# Altium footprint library MOTHERBOARD.PcbLib: 64 footprints (part 4 of 4)
Each footprint in its own frame and in the unit in brackets; x right, y up, seen from the top. Pads: shape width x height; smd on the part's side, far side on the other; paste and mask are expansions set on the pad; w line width, h text height; cw(c..) or ccw(c..) is an arc to the next point about the centre after c.
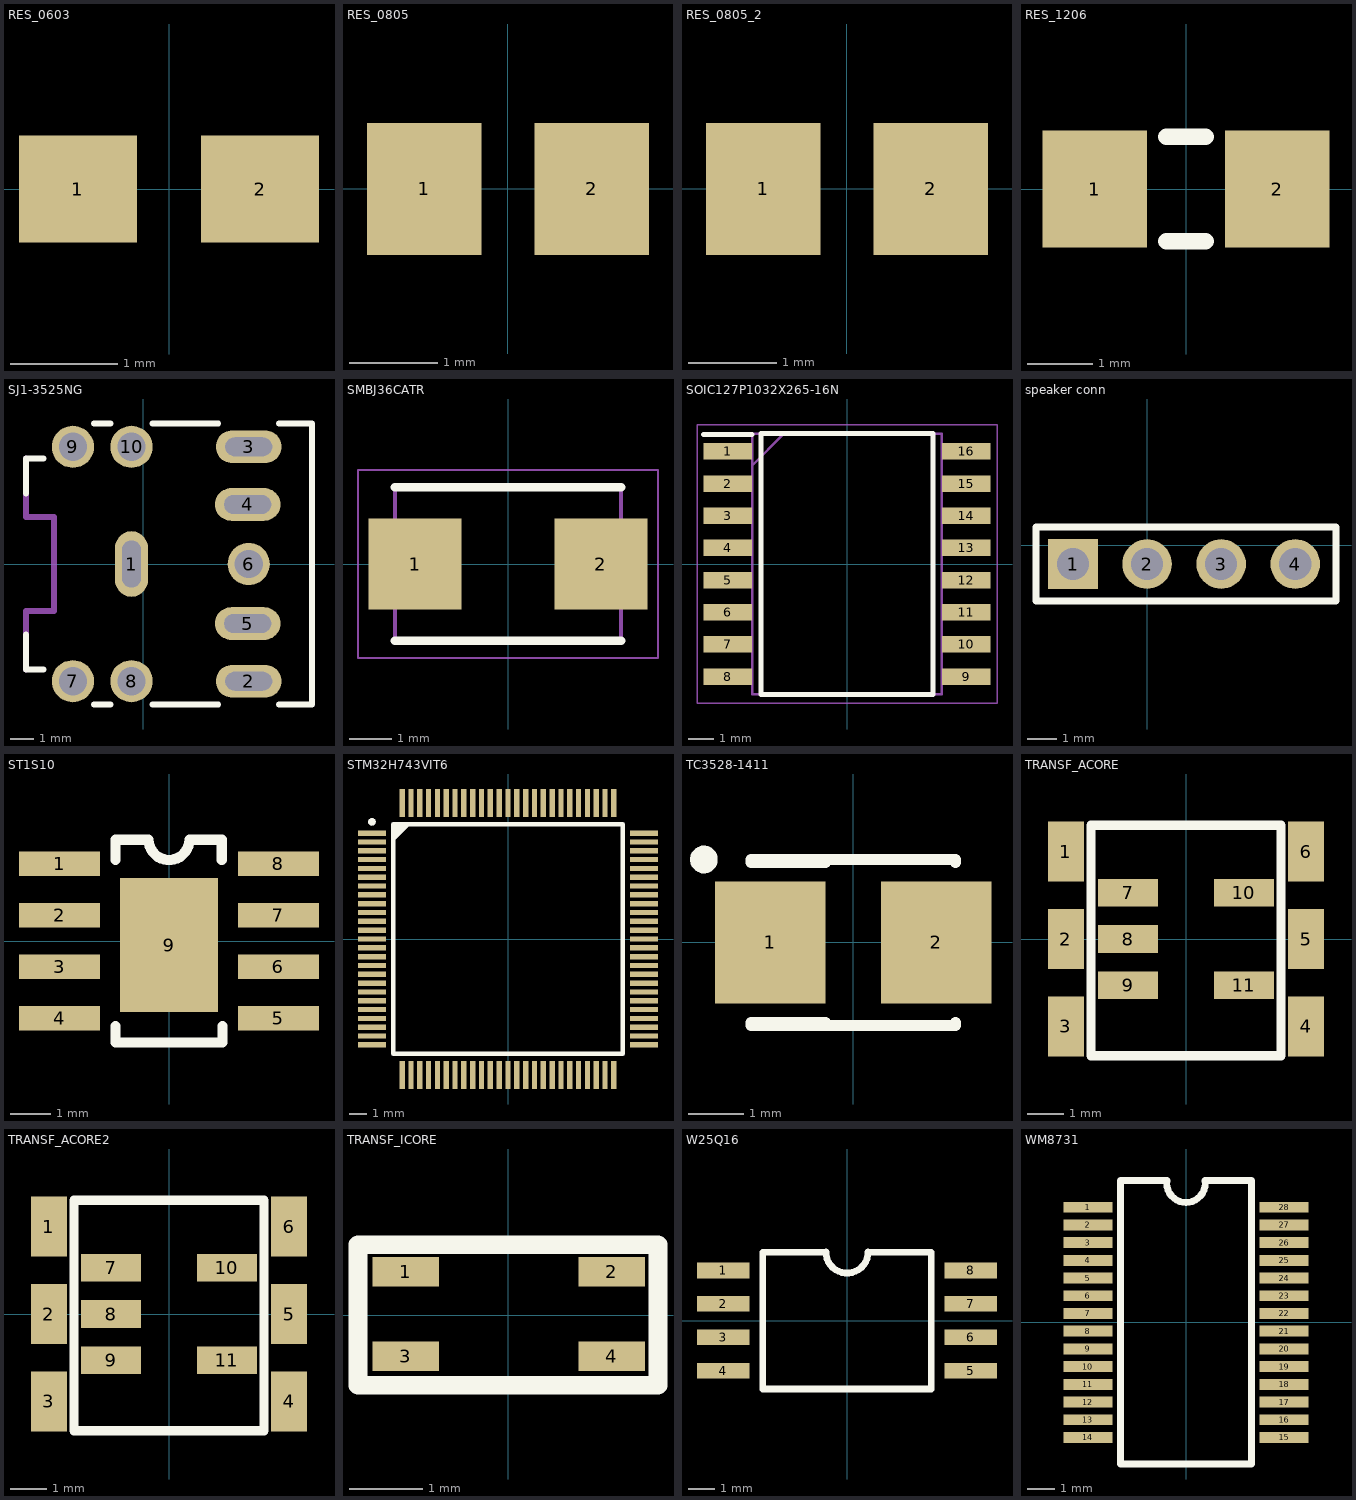
[diagram p3: the footprints below, top view; thin cyan lines are the x and y axes]

## RES_0603 [mm]
pads (2):
  rect 1.1x1 smd: 1(-0.85,0) 2(0.85,0)

## RES_0805 [mm]
pads (2):
  rect 1.3x1.5 smd: 1(-0.95,0) 2(0.95,0)

## RES_0805_2 [mm]
pads (2):
  rect 1.3x1.5 smd: 1(-0.95,0) 2(0.95,0)

## RES_1206 [mm]
pads (2):
  rect 1.6x1.8 smd: 1(-1.4,0) 2(1.4,0)
Top Overlay:
  lines w0.254: -0.299,-0.799 0.299,-0.799 ; -0.299,0.799 0.299,0.799

## SJ1-3525NG [mm]
pads (10):
  oval 1.4x2.8 hole 2 slot 0.8 at 0 deg: 1(-0.511,0)
  oval 2.8x1.4 hole 0.8 slot 2 at 0 deg: 2(4.489,-5) 3(4.489,5) 4(4.445,2.54) 5(4.445,-2.54)
  round 1.8 hole 1.2: 6(4.489,0) 7(-3.011,-5) 8(-0.511,-5) 9(-3.011,5) 10(-0.511,5)
Top Overlay:
  lines w0.254: -5.012,-3 -5.012,-4.5 -4.261,-4.5 ; -5.012,3 -5.012,4.5 -4.261,4.5 ; -2.112,-6 -1.412,-6 ; -2.112,6 -1.412,6 ; 0.388,-6 3.189,-6 ; 0.388,6 3.189,6 ; 5.788,-6 7.188,-6 7.188,6 5.788,6
Mechanical 1:
  lines w0.254: -5.012,-4.5 -5.012,-2 -3.811,-2 -3.811,2 -5.012,2 -5.012,4.5
  text "BOARD" at -6.334,-2.077 h0.42
  text "EDGE" at -7.176,-2.244 h0.42
  text "BOARD" at -6.334,4.423 h0.42
  text "EDGE" at -7.176,4.256 h0.42

## SMBJ36CATR [mm]
pads (2):
  rect 2.2x2.15 smd: 1(-2.2,0) 2(2.2,0)
Top Overlay:
  lines w0.2: -2.675,-1.812 2.675,-1.812 ; -2.675,1.812 2.675,1.812
Mechanical 13:
  lines w0.1: -2.675,-1.812 2.675,-1.812 2.675,1.812 -2.675,1.812 -2.675,-1.812
Mechanical 15:
  lines w0.05: -3.55,-2.225 3.55,-2.225 3.55,2.225 -3.55,2.225 -3.55,-2.225
3D body "SM6T15A.stp": height 2.75, standoff 0, extent -3.085,-1.812 3.085,1.812

## SOIC127P1032X265-16N [mm]
pads (16):
  rect 1.925x0.65 smd: 1(-4.712,4.445) 2(-4.712,3.175) 3(-4.712,1.905) 4(-4.712,0.635) 5(-4.712,-0.635) 6(-4.712,-1.905) 7(-4.712,-3.175) 8(-4.712,-4.445) 9(4.712,-4.445) 10(4.712,-3.175) 11(4.712,-1.905) 12(4.712,-0.635) 13(4.712,0.635) 14(4.712,1.905) 15(4.712,3.175) 16(4.712,4.445)
Top Overlay:
  lines w0.2: -5.675,5.12 -3.75,5.12 ; -3.4,-5.15 3.4,-5.15 3.4,5.15 -3.4,5.15 -3.4,-5.15
Mechanical 13:
  lines w0.1: -3.75,3.88 -2.48,5.15 ; -3.75,-5.15 3.75,-5.15 3.75,5.15 -3.75,5.15 -3.75,-5.15
Mechanical 15:
  lines w0.05: -5.925,-5.5 5.925,-5.5 5.925,5.5 -5.925,5.5 -5.925,-5.5
3D body "ADUM4160BRWZ.stp": height 2.65, standoff 0, extent -5.162,-5.15 5.162,5.15

## speaker conn [mm]
pads (4):
  rect 1.7x1.7 hole 1.1: 1(-2.54,-0.635)
  round 1.7 hole 1.1: 2(0,-0.635) 3(2.54,-0.635) 4(5.08,-0.635)
Top Overlay:
  lines w0.254: -3.809,-1.905 6.477,-1.905 6.477,0.635 -3.809,0.635 -3.809,-1.905

## ST1S10 [mm]
pads (9):
  rect 2x0.6 smd: 1(-2.7,1.905) 2(-2.7,0.635) 3(-2.7,-0.635) 4(-2.7,-1.905) 5(2.7,-1.905) 6(2.7,-0.635) 7(2.7,0.635) 8(2.7,1.905)
  rect 2.41x3.3 smd: 9(0,-0.1)
Top Overlay:
  lines w0.254: -1.317,-2.5 -1.317,-2.1 ; -1.317,2 -1.317,2.5 ; -1.302,-2.5 1.302,-2.5 ; -1.302,2.5 -0.503,2.5 ; -0.503,2.503 ccw(c0,2.503) 0.503,2.503 ; 0.503,2.5 1.302,2.5 1.302,2 ; 1.317,-2.5 1.317,-2.1

## STM32H743VIT6 [mm]
pads (100):
  rect 1.6x0.3 smd: 1(-7.7,6) 2(-7.7,5.5) 3(-7.7,5) 4(-7.7,4.5) 5(-7.7,4) 6(-7.7,3.5) 7(-7.7,3) 8(-7.7,2.5) 9(-7.7,2) 10(-7.7,1.5) 11(-7.7,1) 12(-7.7,0.5) 13(-7.7,0) 14(-7.7,-0.5) 15(-7.7,-1) 16(-7.7,-1.5) 17(-7.7,-2) 18(-7.7,-2.5) 19(-7.7,-3) 20(-7.7,-3.5) 21(-7.7,-4) 22(-7.7,-4.5) 23(-7.7,-5) 24(-7.7,-5.5) 25(-7.7,-6) 51(7.7,-6) 52(7.7,-5.5) 53(7.7,-5) 54(7.7,-4.5) 55(7.7,-4) 56(7.7,-3.5) 57(7.7,-3) 58(7.7,-2.5) 59(7.7,-2) 60(7.7,-1.5) 61(7.7,-1) 62(7.7,-0.5) 63(7.7,0) 64(7.7,0.5) 65(7.7,1) 66(7.7,1.5) 67(7.7,2) 68(7.7,2.5) 69(7.7,3) 70(7.7,3.5) 71(7.7,4) 72(7.7,4.5) 73(7.7,5) 74(7.7,5.5) 75(7.7,6)
  rect 0.3x1.6 smd: 26(-6,-7.7) 27(-5.5,-7.7) 28(-5,-7.7) 29(-4.5,-7.7) 30(-4,-7.7) 31(-3.5,-7.7) 32(-3,-7.7) 33(-2.5,-7.7) 34(-2,-7.7) 35(-1.5,-7.7) 36(-1,-7.7) 37(-0.5,-7.7) 38(0,-7.7) 39(0.5,-7.7) 40(1,-7.7) 41(1.5,-7.7) 42(2,-7.7) 43(2.5,-7.7) 44(3,-7.7) 45(3.5,-7.7) 46(4,-7.7) 47(4.5,-7.7) 48(5,-7.7) 49(5.5,-7.7) 50(6,-7.7) 76(6,7.7) 77(5.5,7.7) 78(5,7.7) 79(4.5,7.7) 80(4,7.7) 81(3.5,7.7) 82(3,7.7) 83(2.5,7.7) 84(2,7.7) 85(1.5,7.7) 86(1,7.7) 87(0.5,7.7) 88(0,7.7) 89(-0.5,7.7) 90(-1,7.7) 91(-1.5,7.7) 92(-2,7.7) 93(-2.5,7.7) 94(-3,7.7) 95(-3.5,7.7) 96(-4,7.7) 97(-4.5,7.7) 98(-5,7.7) 99(-5.5,7.7) 100(-6,7.7)
Top Overlay:
  region: -7.502,6.639 -7.505,6.676 -7.515,6.711 -7.53,6.743 -7.551,6.773 -7.576,6.799 -7.606,6.82 -7.639,6.835 -7.674,6.844 -7.71,6.848 -7.746,6.844 -7.782,6.835 -7.815,6.82 -7.844,6.799 -7.87,6.773 -7.891,6.743 -7.906,6.711 -7.915,6.676 -7.919,6.639 -7.915,6.603 -7.906,6.568 -7.891,6.535 -7.87,6.505 -7.844,6.48 -7.815,6.459 -7.782,6.444 -7.746,6.434 -7.71,6.431 -7.674,6.434 -7.639,6.444 -7.606,6.459 -7.576,6.48 -7.551,6.505 -7.53,6.535 -7.515,6.568 -7.505,6.603
  region: -6.501,6.501 -6.501,5.499 -5.499,6.501
  lines w0.254: -6.501,-6.501 -6.501,6.501 6.501,6.501 6.501,-6.501 -6.501,-6.501

## TC3528-1411 [mm] "Capacitor, SM Tantalum; Body 3.5 x 2.8 mm (LxW typ)"
height 2.5
pads (2):
  rect 2x2.2 smd: 1(-1.5,0) 2(1.5,0)
Top Overlay:
  circle w0.25: c-2.7,1.5 r0.125
  lines w0.2: -1.85,-1.5 1.85,-1.5 1.85,-1.45 ; -1.85,-1.45 -0.5,-1.45 ; -1.85,1.45 -0.5,1.45 ; -1.85,1.5 1.85,1.5 1.85,1.45

## TRANSF_ACORE [mm]
pads (11):
  rect 1x1.65 smd: 1(-3.3,2.4) 2(-3.3,0) 3(-3.3,-2.4) 4(3.3,-2.4) 5(3.3,0) 6(3.3,2.4)
  rect 1.65x0.76 smd: 7(-1.59,1.27) 8(-1.59,0) 9(-1.59,-1.27) 10(1.59,1.27) 11(1.59,-1.27)
Top Overlay:
  lines w0.254: -2.61,-3.21 -2.61,3.13 2.61,3.13 2.61,-3.21 -2.61,-3.21

## TRANSF_ACORE2 [mm]
pads (11):
  rect 1x1.65 smd: 1(-3.3,2.4) 2(-3.3,0) 3(-3.3,-2.4) 4(3.3,-2.4) 5(3.3,0) 6(3.3,2.4)
  rect 1.65x0.76 smd: 7(-1.59,1.27) 8(-1.59,0) 9(-1.59,-1.27) 10(1.59,1.27) 11(1.59,-1.27)
Top Overlay:
  lines w0.254: -2.61,-3.21 -2.61,3.13 2.61,3.13 2.61,-3.21 -2.61,-3.21

## TRANSF_ICORE [mm]
pads (4):
  rect 0.9x0.4 smd: 1(-1.39,0.59) 2(1.41,0.59) 3(-1.39,-0.56) 4(1.41,-0.56)
Top Overlay:
  lines w0.254: -2.04,-0.955 -2.04,0.955 2.04,0.955 2.04,-0.955 -2.04,-0.955

## W25Q16 [mm]
pads (8):
  rect 2x0.6 smd: 1(-4.7,1.905) 2(-4.7,0.635) 3(-4.7,-0.635) 4(-4.7,-1.905) 5(4.7,-1.905) 6(4.7,-0.635) 7(4.7,0.635) 8(4.7,1.905)
Top Overlay:
  lines w0.254: -0.8,2.6 -3.2,2.6 -3.2,-2.6 3.2,-2.6 3.2,2.6 0.8,2.6 ; -0.8,2.601 ccw(c0,2.601) 0.8,2.601

## WM8731 [mm]
pads (28):
  rect 1.8x0.4 smd: 1(-3.6,4.225) 2(-3.6,3.575) 3(-3.6,2.925) 4(-3.6,2.275) 5(-3.6,1.625) 6(-3.6,0.975) 7(-3.6,0.325) 8(-3.6,-0.325) 9(-3.6,-0.975) 10(-3.6,-1.625) 11(-3.6,-2.275) 12(-3.6,-2.925) 13(-3.6,-3.575) 14(-3.6,-4.225) 15(3.6,-4.225) 16(3.6,-3.575) 17(3.6,-2.925) 18(3.6,-2.275) 19(3.6,-1.625) 20(3.6,-0.975) 21(3.6,-0.325) 22(3.6,0.325) 23(3.6,0.975) 24(3.6,1.625) 25(3.6,2.275) 26(3.6,2.925) 27(3.6,3.575) 28(3.6,4.225)
Top Overlay:
  lines w0.254: -0.7,5.2 -2.4,5.2 -2.4,-5.2 2.4,-5.2 2.4,5.2 0.7,5.2 ; -0.7,5.204 ccw(c0,5.106) 0.7,5.204